# EAGLE library part MAX11613 (library PP_AnalogIC)
Manufacturer Part #: MAX11613 Manufacturer: Maxim Integrated Description: Analog to Digital Converters - ADC 12-Bit 4Ch 94.4sps 3.6V Precision ADC
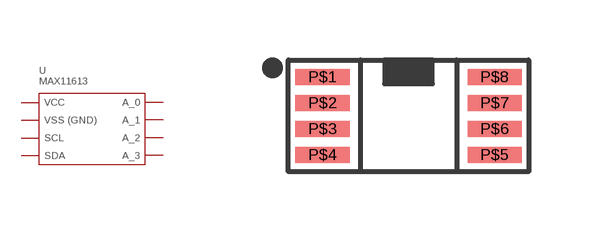
[diagram p5: symbol with the pads of MAX11613_UMAX-8; footprint MAX11613_UMAX-8]

Designator prefix U

## MAX11613EUA+ (POPULATE: 1)  [MAX11613_UMAX-8]
P$1  A_0
P$2  A_1
P$3  A_2
P$4  A_3
P$5  SCL
P$6  SDA
P$7  GND
P$8  VCC

## Footprint MAX11613_UMAX-8 (pad centres in mm)
smd 1.35 x 0.4: P$1 -2.15,0.975; P$2 -2.15,0.325; P$3 -2.15,-0.325; P$4 -2.15,-0.975; P$5 2.15,-0.975; P$6 2.15,-0.325; P$7 2.15,0.325; P$8 2.15,0.975